# EAGLE library part LM224QT (library LM224QT)
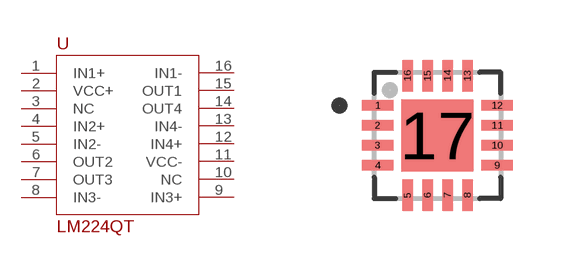
[diagram p0: symbol with the pads of QFN50P300X300X100-17N; footprint QFN50P300X300X100-17N]

Designator prefix -

## LM224QT  [QFN50P300X300X100-17N]
1  IN1+
2  VCC+
3  NC
4  IN2+
5  IN2-
6  OUT2
7  OUT3
8  IN3-
9  IN3+
10  NC
11  VCC-
12  IN4+
13  IN4-
14  OUT4
15  OUT1
16  IN1-

## Footprint QFN50P300X300X100-17N (pad centres in mm)
smd 0.79 x 0.26: 1 -1.495,0.75; 2 -1.495,0.25; 3 -1.495,-0.25; 4 -1.495,-0.75; 9 1.495,-0.75; 10 1.495,-0.25; 11 1.495,0.25; 12 1.495,0.75
smd 0.26 x 0.79: 5 -0.75,-1.495; 6 -0.25,-1.495; 7 0.25,-1.495; 8 0.75,-1.495; 13 0.75,1.495; 14 0.25,1.495; 15 -0.25,1.495; 16 -0.75,1.495
smd 1.8 x 1.8: 17 0,0